# EAGLE library part M05X2 (library pierre_vv)
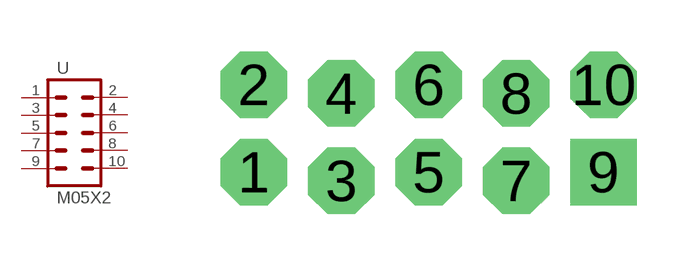
[diagram p15: symbol with the pads of 2X5_LOCK; footprint 2X5_LOCK]

Designator prefix -

## M05X2  [2X5_LOCK]
1  1  pas
2  2  pas
3  3  pas
4  4  pas
5  5  pas
6  6  pas
7  7  pas
8  8  pas
9  9  pas
10  10  pas

## Footprint 2X5_LOCK (pad centres in mm)
drill 1.016 pad 1.93 octagon: 1 -5.08,-1.143; 2 -5.08,1.397; 3 -2.54,-1.397; 4 -2.54,1.143; 5 0,-1.143; 6 0,1.397; 7 2.54,-1.397; 8 2.54,1.143; 10 5.08,1.397
drill 1.016 pad 1.93 square: 9 5.08,-1.143